# EAGLE library part TLC555IDR (library Z_GessIOMod)
LinCMOS TIMER
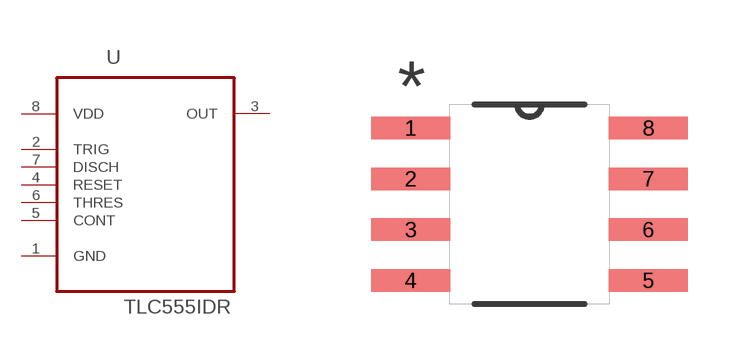
[diagram p12: symbol with the pads of SOIC127P600X175-8N; footprint SOIC127P600X175-8N]

Designator prefix U

## TLC555IDR (MPN: TLC555IDR; OC_FARNELL: 4542009; OC_NEWARK: 35C2154; PACKAGE: SOIC-8; SUPPLIER: Texas Instruments)  [SOIC127P600X175-8N]
1  GND  pas
2  TRIG  in
3  OUT  out
4  RESET  in
5  CONT  pas
6  THRES  pas
7  DISCH  pas
8  VDD  pwr

## Footprint SOIC127P600X175-8N (pad centres in mm)
smd 1.981 x 0.559: 1 -2.972,1.905; 2 -2.972,0.635; 3 -2.972,-0.635; 4 -2.972,-1.905; 5 2.972,-1.905; 6 2.972,-0.635; 7 2.972,0.635; 8 2.972,1.905